# EAGLE library part RF:BANDPASS(MINICIR_SXBP-) (library QuantumOptics)
Mini-Circuits SXBP-xxx+ BandPass Passive RF
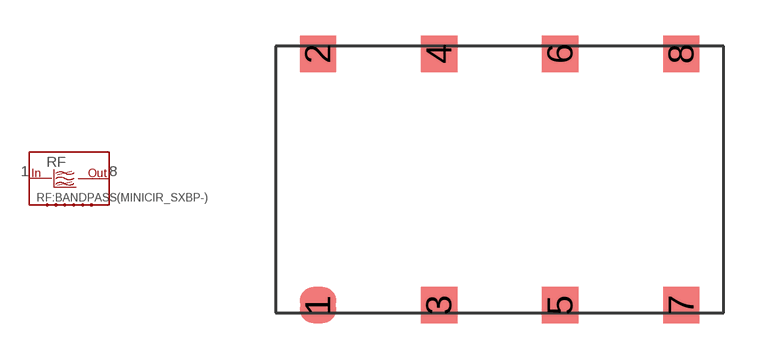
[diagram p144: symbol with the pads of RF:BANDPASS(MINICIR_SXBP-); footprint RF:BANDPASS(MINICIR_SXBP-)]

Designator prefix RF

## RF:BANDPASS(MINICIR_SXBP-)  [RF:BANDPASS(MINICIR_SXBP-)]
1  IN
2  COM
3  COM
4  COM
5  COM
6  COM
7  COM
8  OUT

## Footprint RF:BANDPASS(MINICIR_SXBP-) (pad centres in mm)
Mini-Circuits SXBP-xxx+ BandPass Passive RF
smd 1.524 x 1.524: 1 -7.62,-5.271; 2 -7.62,5.271; 3 -2.54,-5.271; 4 -2.54,5.271; 5 2.54,-5.271; 6 2.54,5.271; 7 7.62,-5.271; 8 7.62,5.271